# Altium footprint library FerriteBead0805_WurthElectronik.PcbLib: 1 footprints
Each footprint in its own frame and in the unit in brackets; x right, y up, seen from the top. Pads: shape width x height; smd on the part's side, far side on the other; paste and mask are expansions set on the pad; w line width, h text height; cw(c..) or ccw(c..) is an arc to the next point about the centre after c.
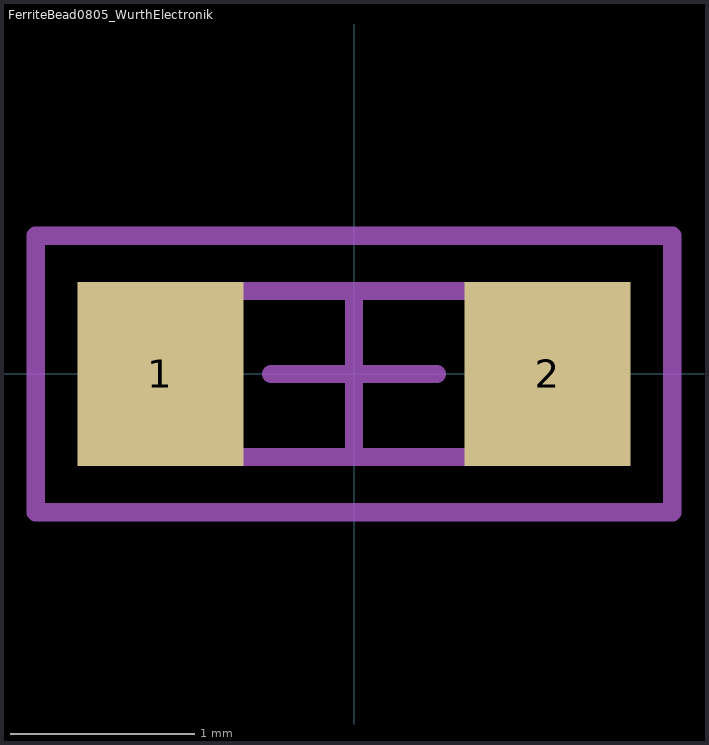
[diagram p0: the footprint, top view; thin cyan lines are the x and y axes]

## FerriteBead0805_WurthElectronik [mm] "FerriteBead0805_WurthElectronik"
height 1.2
pads (2):
  rect 0.9x1 smd: 1(-1.05,0) 2(1.05,0)
Mechanical 13:
  lines w0.1: -1,-0.45 1,-0.45 1,0.45 -1,0.45 -1,-0.45
Mechanical 15:
  lines w0.1: -0.45,0 0.45,0 ; 0,-0.45 0,0.45 ; -1.725,-0.75 1.725,-0.75 1.725,0.75 -1.725,0.75 -1.725,-0.75
3D body: height 1.2, standoff 0, extent -1,-0.45 1,0.45